# Altium footprint library LEDs.PcbLib: 4 footprints
Each footprint in its own frame and in the unit in brackets; x right, y up, seen from the top. Pads: shape width x height; smd on the part's side, far side on the other; paste and mask are expansions set on the pad; w line width, h text height; cw(c..) or ccw(c..) is an arc to the next point about the centre after c.
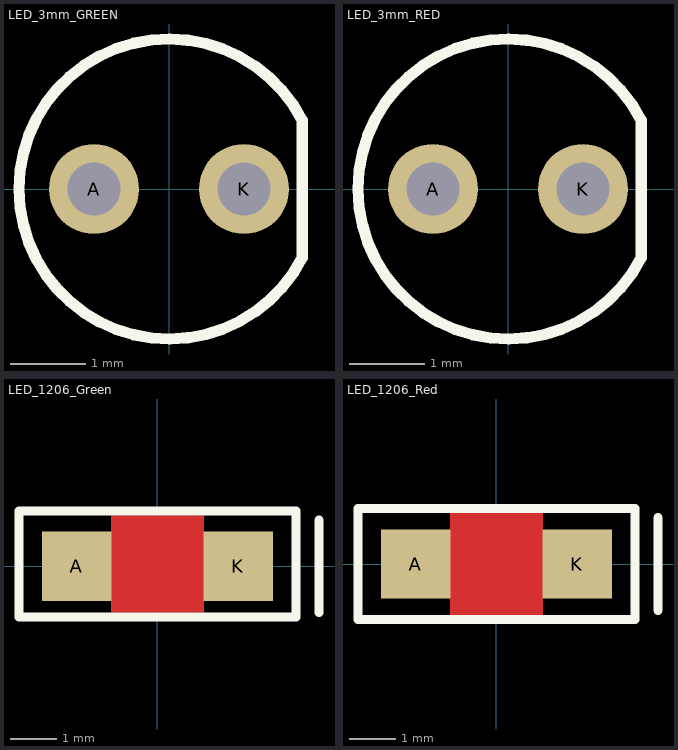
[diagram p0: the footprints below, top view; thin cyan lines are the x and y axes]

## LED_3mm_GREEN [mm]
pads (2):
  round 1.2 hole 0.7: A(-1,0) K(1,0)
Top Overlay:
  lines w0.15: 1.778,-0.916 cw(c0,0) 1.778,0.916 1.778,-0.916
3D body "JesusMC_led 3mm verde v2.step": height 13.07, standoff -18.43, extent -1.932,-1.917 1.493,1.917

## LED_3mm_RED [mm]
pads (2):
  round 1.2 hole 0.7: A(-1,0) K(1,0)
Top Overlay:
  lines w0.15: 1.778,-0.916 cw(c0,0) 1.778,0.916 1.778,-0.916
3D body "KevinLS_Led rojo de 3mm GC.step": height 12.45, standoff -9.8, extent -1.95,-1.949 1.45,1.949

## LED_1206_Green [mm]
pads (2):
  rect 1.5x1.5 smd: A(-1.75,0) K(1.75,0)
Top Layer:
  pour cut-out: -1,1.1 1,1.1 1,-1 -1,-1
Top Overlay:
  lines w0.2: 3.5,-1 3.5,1 ; -3,-1.1 -3,0.75 -3,1.2 3,1.2 3,-1.1 -3,-1.1
3D body "LED1206 GREEN.stp": height 1.1, standoff 0, extent -1.61,-0.8 1.61,0.8

## LED_1206_Red [mm]
pads (2):
  rect 1.5x1.5 smd: A(-1.75,0) K(1.75,0)
Top Layer:
  pour cut-out: -1,1.1 1,1.1 1,-1.1 -1,-1.1
Top Overlay:
  lines w0.2: 3.5,-1 3.5,1 ; -3,-1.2 3,-1.2 3,1.2 -3,1.2 -3,0.75 -3,-1.2
3D body "LED1206 RED.STEP": height 1.1, standoff 0, extent -1.61,-0.8 1.61,0.8